# Altium schematic symbol library SCH - INTERFACE - RS422 RS485 - FT260S-U.SCHLIB: 1 symbol
Pins are listed as number, name and electrical type; pins without a type are passive.

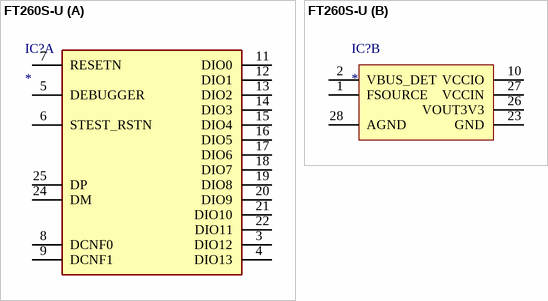
[diagram p0: symbol FT260S-U]

## FT260S-U
designator IC?
Integrated Circuit; Manufacturer_Name: FTDI Chip; Manufacturer_Part_Number: FT260S-U; Datasheet Link: https://www.ftdichip.com/Support/Documents/DataSheets/ICs/DS_FT260.pdf; Height: 1.2mm; Mouser Part Number: 895-FT260S-U; Mouser Price/Stock: https://www.mouser.co.uk/ProductDetail/FTDI/FT260S-U?qs=kxHH85wvK2I1y%2FWs1iaApw%3D%3D; Arrow Part Number: FT260S-U; Arrow Price/Stock: https://www.arrow.com/en/products/ft260s-u/ftdi-chip?region=nac
part A pins: 3 DIO12, 4 DIO13, 5 DEBUGGER, 6 STEST_RSTN, 7 RESETN, 8 DCNF0, 9 DCNF1, 11 DIO0, 12 DIO1, 13 DIO2, 14 DIO3, 15 DIO4, 16 DIO5, 17 DIO6, 18 DIO7, 19 DIO8, 20 DIO9, 21 DIO10, 22 DIO11, 24 DM, 25 DP
part B pins: 1 FSOURCE, 2 VBUS_DET, 10 VCCIO, 23 GND, 26 VOUT3V3, 27 VCCIN, 28 AGND